# Altium schematic symbol library IC_HDMI.SchLib: 5 symbols
Pins are listed as number, name and electrical type; pins without a type are passive.

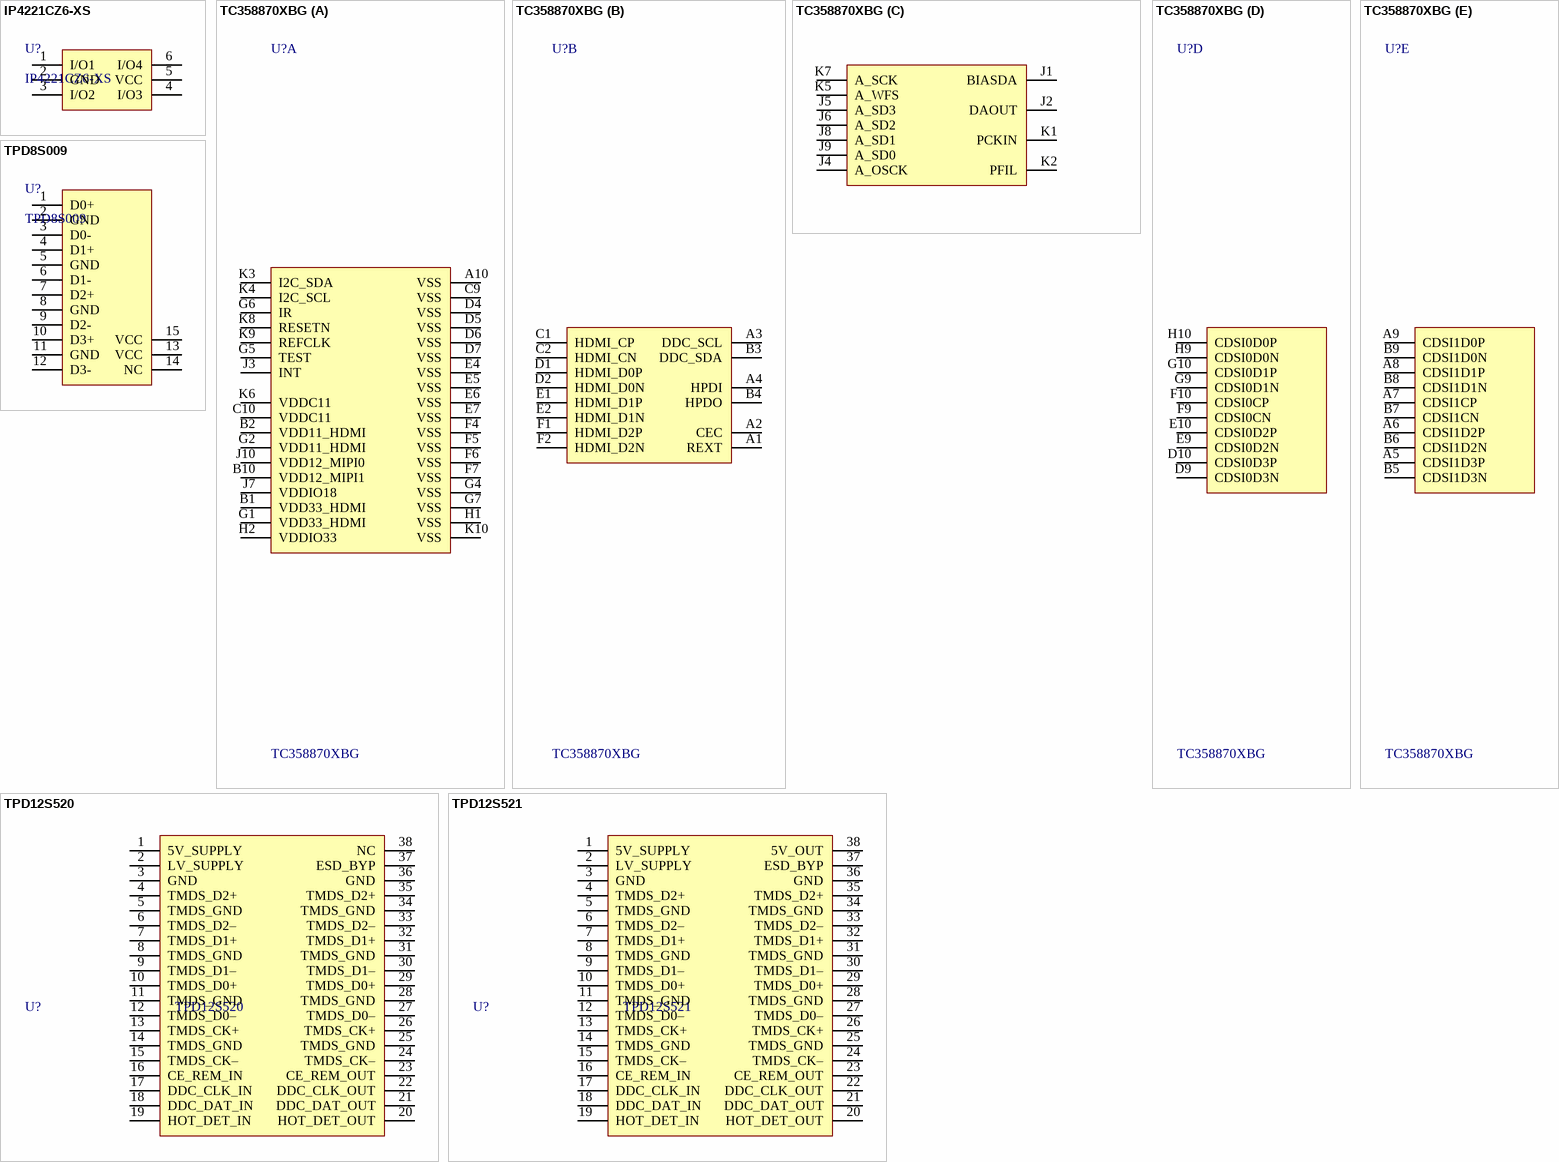
[diagram p0: symbols IP4221CZ6-XS to TPD12S521]

## IP4221CZ6-XS
designator U?
ESD protection for high-speed interfaces 4-Ch; Datasheet: http://www.nxp.com/documents/data_sheet/IP4221CZ6-XS.pdf
footprint SOT-891 (SON, 6-Leads, Body 1,00x1,00mm, Pitch 0,35mm, IPC High Density)
pins: 1 I/O1, 2 GND, 3 I/O2, 4 I/O3, 5 VCC, 6 I/O4

## TC358870XBG
designator U?
Ultra HD to dual DSI bridge
footprint VFBGA-80-0707-0.65 (BGA, 64-Leads, Body 7,00x7,00mmx1,00mm, Pitch 0,65mm)
part A pins: A10 VSS, B1 VDD33_HDMI, B2 VDD11_HDMI, B10 VDD12_MIPI1, C9 VSS, C10 VDDC11, D4 VSS, D5 VSS, D6 VSS, D7 VSS, E4 VSS, E5 VSS, E6 VSS, E7 VSS, F4 VSS, F5 VSS, F6 VSS, F7 VSS, G1 VDD33_HDMI, G2 VDD11_HDMI, G4 VSS, G5 TEST, G6 IR, G7 VSS, H1 VSS, H2 VDDIO33, J3 INT, J7 VDDIO18, J10 VDD12_MIPI0, K3 I2C_SDA, K4 I2C_SCL, K6 VDDC11, K8 RESETN, K9 REFCLK, K10 VSS
part B pins: A1 REXT, A2 CEC, A3 DDC_SCL, A4 HPDI, B3 DDC_SDA, B4 HPDO, C1 HDMI_CP, C2 HDMI_CN, D1 HDMI_D0P, D2 HDMI_D0N, E1 HDMI_D1P, E2 HDMI_D1N, F1 HDMI_D2P, F2 HDMI_D2N
part C pins: J1 BIASDA, J2 DAOUT, J4 A_OSCK, J5 A_SD3, J6 A_SD2, J8 A_SD1, J9 A_SD0, K1 PCKIN, K2 PFIL, K5 A_WFS, K7 A_SCK
part D pins: D9 CDSI0D3N, D10 CDSI0D3P, E9 CDSI0D2N, E10 CDSI0D2P, F9 CDSI0CN, F10 CDSI0CP, G9 CDSI0D1N, G10 CDSI0D1P, H9 CDSI0D0N, H10 CDSI0D0P
part E pins: A5 CDSI1D3P, A6 CDSI1D2P, A7 CDSI1CP, A8 CDSI1D1P, A9 CDSI1D0P, B5 CDSI1D3N, B6 CDSI1D2N, B7 CDSI1CN, B8 CDSI1D1N, B9 CDSI1D0N

## TPD8S009
designator U?
8-Channel ESD Protection for DisplayPort and HDMI; Datasheet: http://www.ti.com/lit/ds/symlink/tpd8s009.pdf
footprint SON-15-0.5-6.5x2.5_12/3 (SON, 24-Leads, Body 6,50x2,50mm, Pitch 0,50mm, IPC Medium Density)
pins: 1 D0+, 2 GND, 3 D0-, 4 D1+, 5 GND, 6 D1-, 7 D2+, 8 GND, 9 D2-, 10 D3+, 11 GND, 12 D3-, 13 VCC, 14 NC, 15 VCC

## TPD12S520
designator U?
HDMI ESD protection device
footprint TSSOP-38-0.5 (TSSOP, 38-Leads, Body 9,70x4,40mm, Pitch 0,50mm)
pins: 1 5V_SUPPLY, 2 LV_SUPPLY, 3 GND, 4 TMDS_D2+, 5 TMDS_GND, 6 TMDS_D2–, 7 TMDS_D1+, 8 TMDS_GND, 9 TMDS_D1–, 10 TMDS_D0+, 11 TMDS_GND, 12 TMDS_D0–, 13 TMDS_CK+, 14 TMDS_GND, 15 TMDS_CK–, 16 CE_REM_IN, 17 DDC_CLK_IN, 18 DDC_DAT_IN, 19 HOT_DET_IN, 20 HOT_DET_OUT, 21 DDC_DAT_OUT, 22 DDC_CLK_OUT, 23 CE_REM_OUT, 24 TMDS_CK–, 25 TMDS_GND, 26 TMDS_CK+, 27 TMDS_D0–, 28 TMDS_GND, 29 TMDS_D0+, 30 TMDS_D1–, 31 TMDS_GND, 32 TMDS_D1+, 33 TMDS_D2–, 34 TMDS_GND, 35 TMDS_D2+, 36 GND, 37 ESD_BYP, 38 NC

## TPD12S521
designator U?
HDMI ESD protection device
footprint TSSOP-38-0.5 (TSSOP, 38-Leads, Body 9,70x4,40mm, Pitch 0,50mm)
pins: 1 5V_SUPPLY, 2 LV_SUPPLY, 3 GND, 4 TMDS_D2+, 5 TMDS_GND, 6 TMDS_D2–, 7 TMDS_D1+, 8 TMDS_GND, 9 TMDS_D1–, 10 TMDS_D0+, 11 TMDS_GND, 12 TMDS_D0–, 13 TMDS_CK+, 14 TMDS_GND, 15 TMDS_CK–, 16 CE_REM_IN, 17 DDC_CLK_IN, 18 DDC_DAT_IN, 19 HOT_DET_IN, 20 HOT_DET_OUT, 21 DDC_DAT_OUT, 22 DDC_CLK_OUT, 23 CE_REM_OUT, 24 TMDS_CK–, 25 TMDS_GND, 26 TMDS_CK+, 27 TMDS_D0–, 28 TMDS_GND, 29 TMDS_D0+, 30 TMDS_D1–, 31 TMDS_GND, 32 TMDS_D1+, 33 TMDS_D2–, 34 TMDS_GND, 35 TMDS_D2+, 36 GND, 37 ESD_BYP, 38 5V_OUT